# EAGLE library part USB4145-03-0230-C_REVA2 (library USB4145-03-0230-C_REVA2)
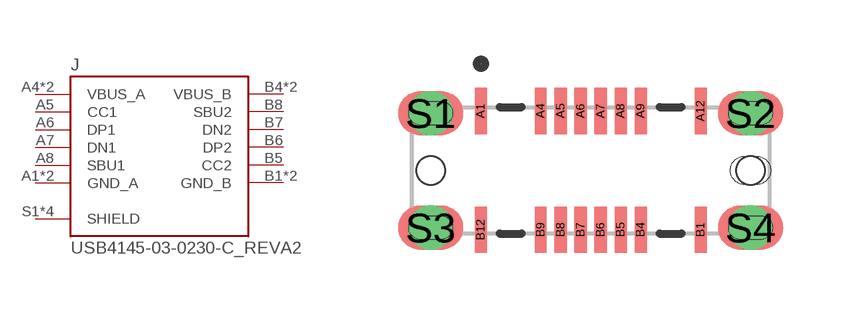
[diagram p0: symbol with the pads of GCT_USB4145-03-0230-C_REVA2; footprint GCT_USB4145-03-0230-C_REVA2]

Designator prefix J

## USB4145-03-0230-C_REVA2 (MANUFACTURER: GCT; MAXIMUM_PACKAGE_HEIGHT: 7.66mm; PARTREV: A2; SNAPEDA_PN: USB4145-03-0230-C; STANDARD: Manufacturer Recommendations)  [GCT_USB4145-03-0230-C_REVA2]
A1  GND_A  pwr
A4  VBUS_A  pwr
A5  CC1
A6  DP1
A7  DN1
A8  SBU1
A9  VBUS_A  pwr
A12  GND_A  pwr
B1  GND_B  pwr
B4  VBUS_B  pwr
B5  CC2
B6  DP2
B7  DN2
B8  SBU2
B9  VBUS_B  pwr
B12  GND_B  pwr
S1  SHIELD  pas
S2  SHIELD  pas
S3  SHIELD  pas
S4  SHIELD  pas

## Footprint GCT_USB4145-03-0230-C_REVA2 (pad centres in mm)
smd 0.3 x 1.15: A1 -2.75,1.485; A4 -1.25,1.485; A5 -0.75,1.485; A6 -0.25,1.485; A7 0.25,1.485; A8 0.75,1.485; A9 1.25,1.485; A12 2.75,1.485; B1 2.75,-1.485; B4 1.25,-1.485; B5 0.75,-1.485; B6 0.25,-1.485; B7 -0.25,-1.485; B8 -0.75,-1.485; B9 -1.25,-1.485; B12 -2.75,-1.485
drill 0.6 pad 1.1: S1 -4,1.43; S2 4,1.43; S3 -4,-1.43; S4 4,-1.43
hole 0.71 at -4,0
hole 0.71 at 4,0